# EAGLE library part ADL5201 (library AnalogDevices)
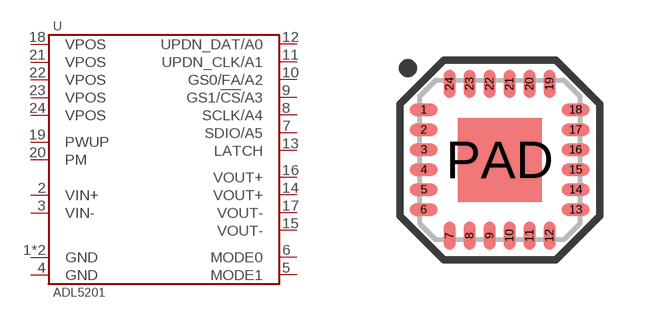
[diagram p6: symbol with the pads of VQFN-24-4MM; footprint VQFN-24-4MM]

Designator prefix U

## ADL5201ACPZ-R7  [VQFN-24-4MM]
1  GND
2  VIN+
3  VIN-
4  GND
5  MODE1
6  MODE0
7  SDIO/A5
8  SCLK/A4
9  GS1/!CS!/A3
10  GS0/FA/A2
11  UPDN_CLK/A1
12  UPDN_DAT/A0
13  LATCH
14  VOUT+
15  VOUT-
16  VOUT+
17  VOUT-
18  VPOS
19  PWUP
20  PM
21  VPOS
22  VPOS
23  VPOS
24  VPOS
PAD  GND

## Footprint VQFN-24-4MM (pad centres in mm)
smd 0.7 x 0.3: 1 -1.9,1.25; 2 -1.9,0.75; 3 -1.9,0.25; 4 -1.9,-0.25; 5 -1.9,-0.75; 6 -1.9,-1.25; 13 1.9,-1.25; 14 1.9,-0.75; 15 1.9,-0.25; 16 1.9,0.25; 17 1.9,0.75; 18 1.9,1.25
smd 0.3 x 0.7: 7 -1.25,-1.9; 8 -0.75,-1.9; 9 -0.25,-1.9; 10 0.25,-1.9; 11 0.75,-1.9; 12 1.25,-1.9; 19 1.25,1.9; 20 0.75,1.9; 21 0.25,1.9; 22 -0.25,1.9; 23 -0.75,1.9; 24 -1.25,1.9
smd 2.1 x 2.1: PAD 0,0